# Altium footprint library ATECC608A-MAHDA-T.PcbLib: 1 footprints
Each footprint in its own frame and in the unit in brackets; x right, y up, seen from the top. Pads: shape width x height; smd on the part's side, far side on the other; paste and mask are expansions set on the pad; w line width, h text height; cw(c..) or ccw(c..) is an arc to the next point about the centre after c.
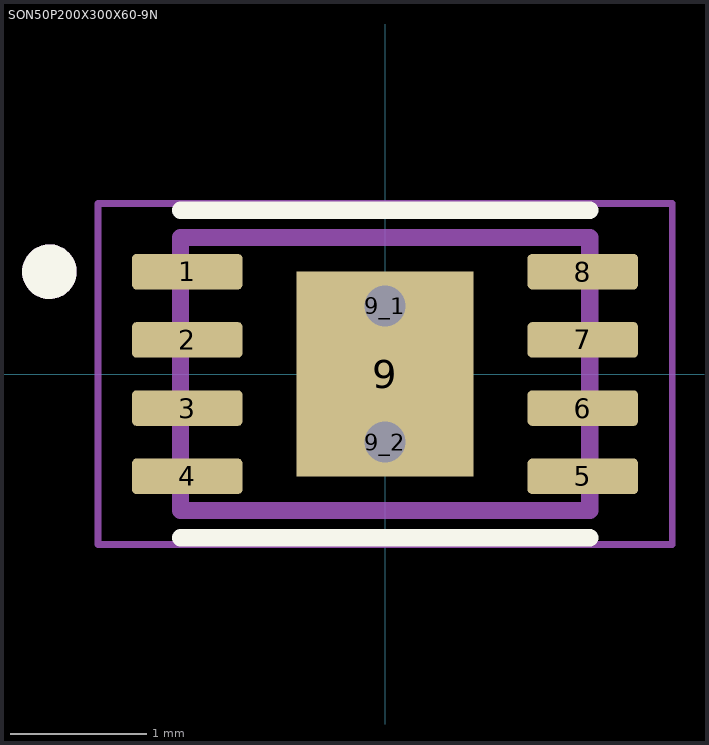
[diagram p0: the footprint, top view; thin cyan lines are the x and y axes]

## SON50P200X300X60-9N [mm]
pads (11):
  rrect25% 0.81x0.26 smd: 1(-1.45,0.75) 2(-1.45,0.25) 3(-1.45,-0.25) 4(-1.45,-0.75) 5(1.45,-0.75) 6(1.45,-0.25) 7(1.45,0.25) 8(1.45,0.75)
  rect 1.3x1.5 smd paste-2: 9(0,0)
  round 0.4 hole 0.3: 9_1(0,0.5) 9_2(0,-0.5)
Top Overlay:
  circle w0.2: c-2.46,0.75 r0.1
  lines w0.127: -1.5,-1.2 1.5,-1.2 ; -1.5,1.2 1.5,1.2
Mechanical 13:
  circle w0.2: c-2.46,0.75 r0.1
  lines w0.127: -1.5,-1 -1.5,1 1.5,1 1.5,-1 -1.5,-1
Mechanical 15:
  lines w0.05: -2.105,-1.25 -2.105,1.25 2.105,1.25 2.105,-1.25 -2.105,-1.25
3D body "step_temp.STEP": height 0.6, standoff 0, extent -1.5,-1 1.5,1